# Altium schematic symbol library ON Semi Small Signal Switching Diodes.SchLib: 233 symbols (part 6 of 6)
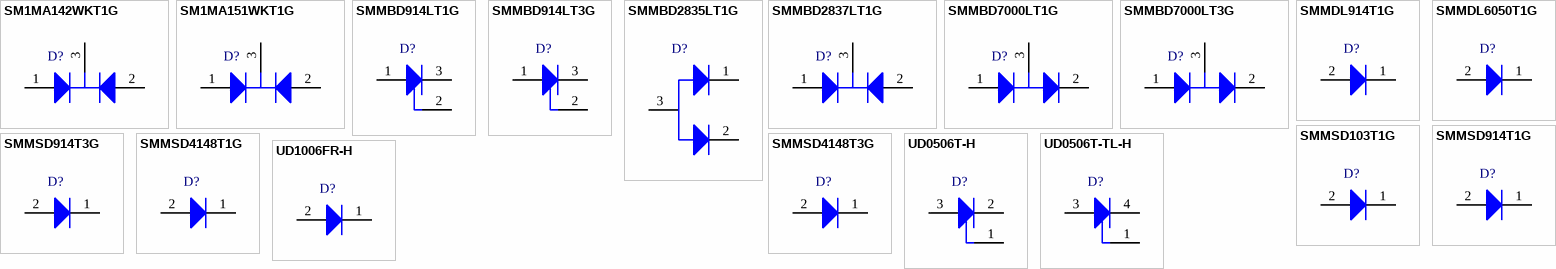
[diagram p11: symbols SM1MA142WKT1G to UD1006FR-H]

## UD0506T-H
designator D?
Planar Ultrafast Rectifier, Low VF Type, 5 A, 600 V, 1.3 V, 3-Pin IPAK, Pb-Free, Bulk Bag; Manufacturer: On Semiconductor; PartNumber: UD0506T-H; Configuration: Single; DatasheetVersion: Rev. 0; PackageVersion: Rev. O, 01/2012; PackageReference: IPAK-3-369AJ; PackageDescription: 3-Pin Flange Mount, Vertical Straight Lead, Body 6.5 x 5.5 mm, Pitch 2.3 mm; Supplier 1: Digi-Key; Supplier Part Number 1: UD0506T-H-ND; Supplier 2: Mouser; Supplier Part Number 2: 863-UD0506T-H; Packing: Bulk Bag; RoHS: TRUE; Mounting Technology: Through Hole; ComponentLink1Description: Manufacturer URL; ComponentLink1URL: http://www.onsemi.com/; ComponentLink2Description: Datasheet; ComponentLink2URL: http://www.onsemi.com/pub_link/Collateral/ENA1705-D.PDF; ComponentLink3Description: Package Specification; ComponentLink3URL: http://www.onsemi.cn/pub_link/Collateral/369AJ.PDF
footprint ONSC-IPAK-3-369AJ (FM, 3-Leads, Body 6.7x2.5mm, Pitch 2.3mm)
pins: 1 NC, 2 K, 3 A

## UD0506T-TL-H
designator D?
Planar Ultrafast Rectifier, Low VF Type, 5 A, 600 V, 1.3 V, 3-Pin TP-FA, Pb-Free, Tape and Reel; Manufacturer: On Semiconductor; PartNumber: UD0506T-TL-H; Configuration: Single; DatasheetVersion: Rev. 0; PackageVersion: Rev. O, 01/2012; PackageReference: TP-FA-3-369AH; PackageDescription: 3-Pin Flange Mount, Body 6.5 x 5.5 mm, Pitch 2.3 mm; Supplier 1: Digi-Key; Supplier Part Number 1: UD0506T-TL-H-ND; Supplier 2: Mouser; Supplier Part Number 2: 863-UD0506T-TL-H; Packing: Tape and Reel; RoHS: TRUE; Mounting Technology: Surface Mount; ComponentLink1Description: Manufacturer URL; ComponentLink1URL: http://www.onsemi.com/; ComponentLink2Description: Datasheet; ComponentLink2URL: http://www.onsemi.com/pub_link/Collateral/ENA1705-D.PDF; ComponentLink3Description: Package Specification; ComponentLink3URL: http://www.onsemi.com/pub_link/Collateral/369AH.PDF
footprint ONSC-TP-FA-3-369AH_V (DPAK, 3-Leads, Body 6.5x5.5mm, Pitch 2.3mm)
pins: 1 NC, 3 A, 4 K

## UD1006FR-H
designator D?
Planar Ultrafast Rectifier, Low VF Type, 10 A, 600 V, 1.3 V, 2-Pin TO-220, Pb-Free, Tube; Manufacturer: On Semiconductor; PartNumber: UD1006FR-H; Configuration: Single; DatasheetVersion: Rev. 1; PackageVersion: Rev. O, 02/2012; PackageReference: TO-220F-2FS-2-221AS; PackageDescription: 2-Pin Flange Mount, Vertical Straight Lead, Body 10.16 x 4.7 mm, Pitch 5.08 mm; Supplier 1: Digi-Key; Supplier Part Number 1: UD1006FR-H-ND; Supplier 2: Newark; Supplier Part Number 2: 07W7453; Supplier 3: Mouser; Supplier Part Number 3: 863-UD1006FR-H; Packing: Tube; RoHS: TRUE; Mounting Technology: Through Hole; ComponentLink1Description: Manufacturer URL; ComponentLink1URL: http://www.onsemi.com/; ComponentLink2Description: Datasheet; ComponentLink2URL: http://www.onsemi.com/pub_link/Collateral/ENA1745-D.PDF; ComponentLink3Description: Package Specification; ComponentLink3URL: http://www.onsemi.com/pub_link/Collateral/221AS.PDF
footprint ONSC-TO-220F-2FS-2-221AS (FM, 2-Leads, Body 10.4x4.9mm, Pitch 5.08mm)
pins: 1 K, 2 A